# Altium schematic symbol library Optic.SchLib: 1 symbol
Pins are listed as number, name and electrical type; pins without a type are passive.

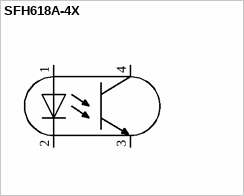
[diagram p0: symbol SFH618A-4X]

## SFH618A-4X
designator D  (value not drawn)
SFH618A-4X, Оптопара транзисторная [DIP-4]
footprint DIP4
pins: 1 A, 2 C, 3 E, 4 C